# EAGLE library part STM32F042F6P (library MCU)
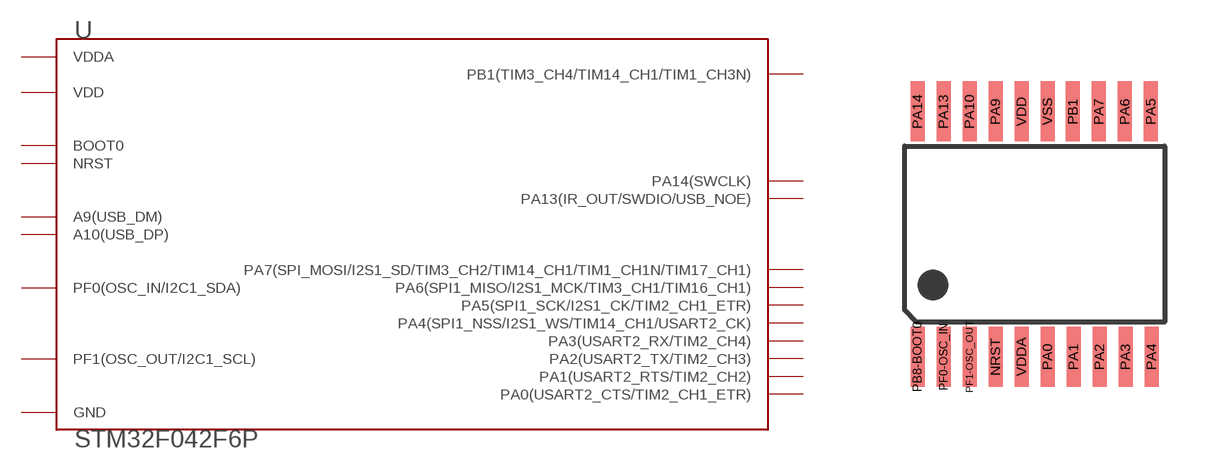
[diagram p5: symbol with the pads of STM32F042F; footprint STM32F042F]

Designator prefix U

## STM32F042F6P  [STM32F042F]
NRST  NRST
PA0  PA0(USART2_CTS/TIM2_CH1_ETR)
PA1  PA1(USART2_RTS/TIM2_CH2)
PA2  PA2(USART2_TX/TIM2_CH3)
PA3  PA3(USART2_RX/TIM2_CH4)
PA4  PA4(SPI1_NSS/I2S1_WS/TIM14_CH1/USART2_CK)
PA5  PA5(SPI1_SCK/I2S1_CK/TIM2_CH1_ETR)
PA6  PA6(SPI1_MISO/I2S1_MCK/TIM3_CH1/TIM16_CH1)
PA7  PA7(SPI_MOSI/I2S1_SD/TIM3_CH2/TIM14_CH1/TIM1_CH1N/TIM17_CH1)
PA9  A9(USB_DM)
PA10  A10(USB_DP)
PA13  PA13(IR_OUT/SWDIO/USB_NOE)
PA14  PA14(SWCLK)
PB1  PB1(TIM3_CH4/TIM14_CH1/TIM1_CH3N)
PB8-BOOT0  BOOT0
PF0-OSC_IN  PF0(OSC_IN/I2C1_SDA)
PF1-OSC_OUT  PF1(OSC_OUT/I2C1_SCL)
VDD  VDD
VDDA  VDDA
VSS  GND

## Footprint STM32F042F (pad centres in mm)
NXP PCA9634PW 8-bit i2C-bus LED Controller
smd 0.35 x 1.5: NRST -0.975,-3.065; PA0 0.325,-3.065; PA1 0.975,-3.065; PA2 1.625,-3.065; PA3 2.275,-3.065; PA4 2.925,-3.065; PA5 2.91,3.065; PA6 2.26,3.065; PA7 1.61,3.065; PA9 -0.975,3.065; PA10 -1.625,3.065; PA13 -2.275,3.065; PA14 -2.925,3.065; PB1 0.96,3.065; PB8-BOOT0 -2.925,-3.065; PF0-OSC_IN -2.275,-3.065; PF1-OSC_OUT -1.625,-3.065; VDD -0.325,3.065; VDDA -0.325,-3.065; VSS 0.325,3.065